# Altium integrated library Cypress PSoC 5.IntLib: 32 symbols (part 6 of 6)
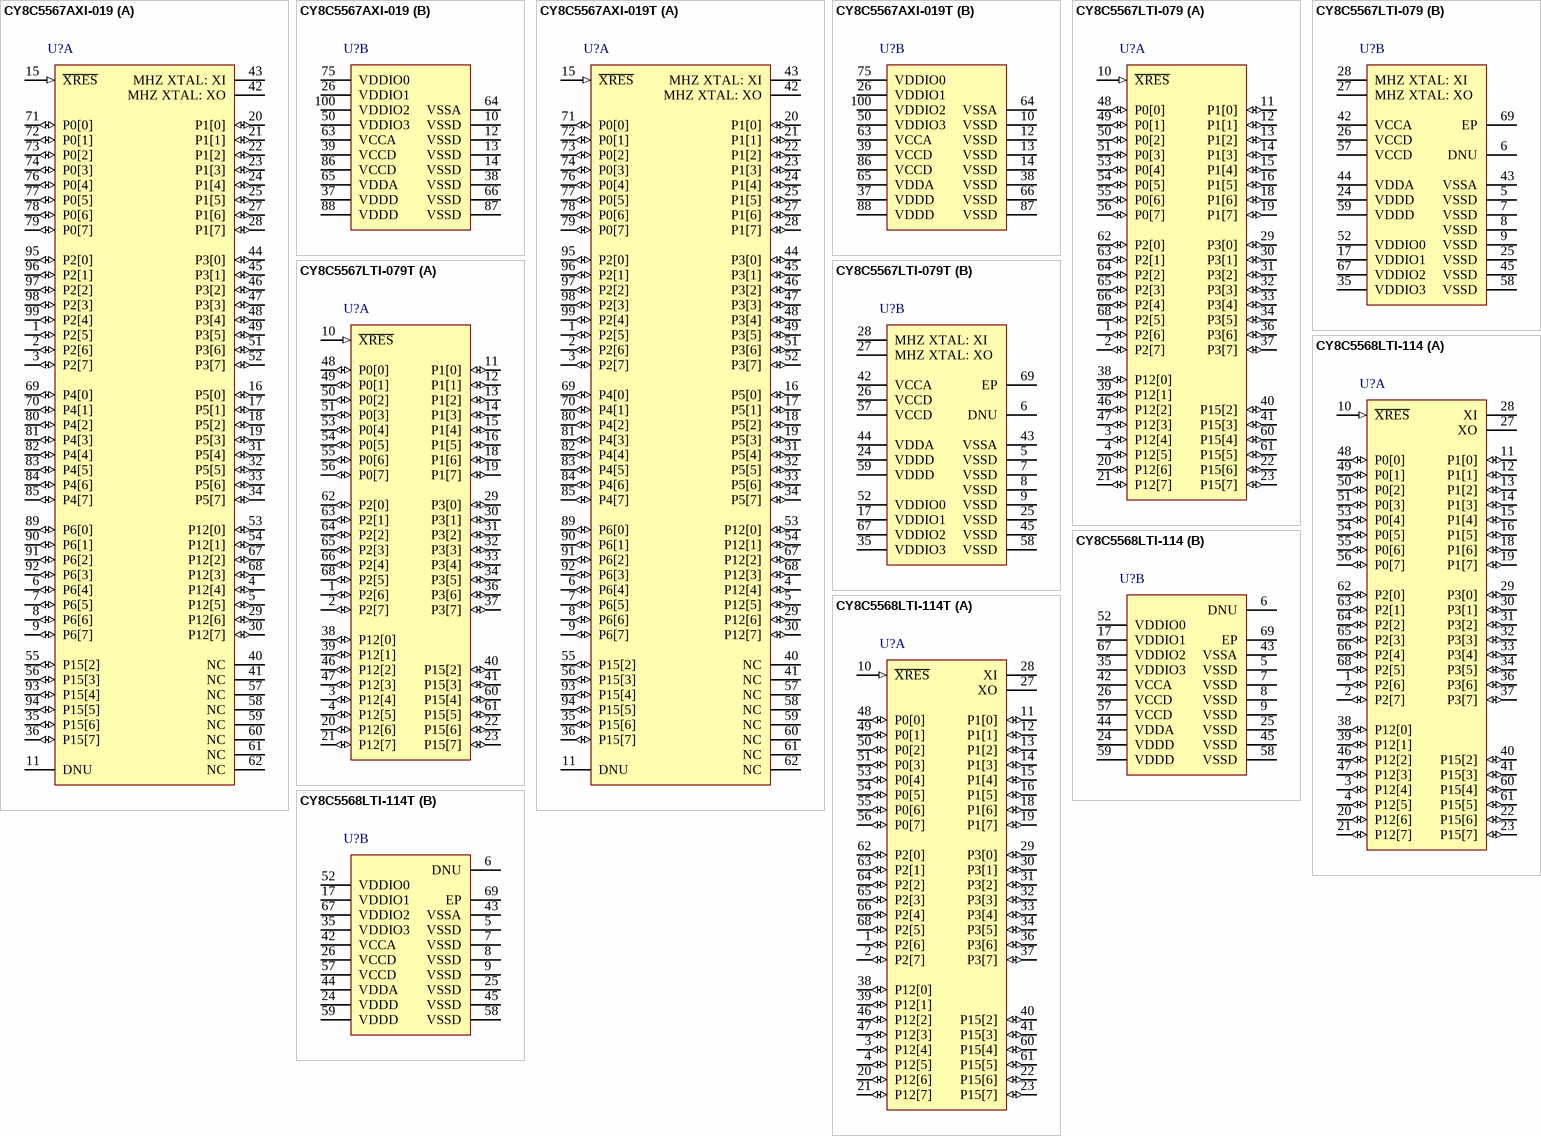
[diagram p9: symbols CY8C5567AXI-019 to CY8C5568LTI-114T]

## CY8C5568LTI-114
designator U?
PSoC Programmable System-on-Chip, 256 KB Flash, 36 GPIOs, 2.7 to 5.5 V, 68-Pin QFN (LT68); Manufacturer: Cypress; PartNumber: CY8C5568LTI-114; CPU Core: ARM Cortex-M3; EEPROM (KB): 2; Flash (KB): 256; LCD Direct Drive: Y; Max. Operating Voltage (V): 5.5; Min. Operating Voltage (V): 2.7; No. of Dedicated Digital Filter Blocks: 1; No. of GPIOs: 36; No. of Programmable Universal Digital Blocks: 24; Rating: I; SRAM (KB): 64; DatasheetVersion: Rev. *D; PackageVersion: Rev. *E; PackageReference: LT68; PackageDescription: 68-Pin QFN, Body 8.00 x 8.00 mm, Pitch 0.40 mm; Supplier 1: Digi-Key; Supplier Part Number 1: 428-3143-ND; Supplier 2: Farnell; Supplier Part Number 2: 2082980; Supplier 3: Newark; Supplier Part Number 3: 88T3069; Supplier 4: Newark; Supplier Part Number 4: 89T5499; Supplier 5: Mouser; Supplier Part Number 5: 727-CY8C5568LTI-114; Max. Operating Temp. (°C): 85; Min. Operating Temp. (°C): -40; Mounting Technology: Surface Mount; Code_JEDEC: MO-220; ComponentLink1Description: Manufacturer URL; ComponentLink1URL: http://www.cypress.com/; ComponentLink2Description: Datasheet; ComponentLink2URL: http://www.cypress.com/?docID=34815; ComponentLink3Description: Package Specification; ComponentLink3URL: http://www.cypress.com/?docID=38892; ComponentLink4Description: Product URL; ComponentLink4URL: http://www.cypress.com/?rID=37581
footprint CYP-LT68_N (QFN, 68-Leads, Body 8x8mm, Pitch 0.4mm, Thermal Pad 5.7x5.7mm, IPC Medium Density)
part A pins: 1 P2[6] (io) "Provides interfaces to the CPU, digital peripherals, analog peripherals, interrupts, LCD segment drive, and CapSense.", 2 P2[7] (io) "Provides interfaces to the CPU, digital peripherals, analog peripherals, interrupts, LCD segment drive, and CapSense.", 3 P12[4] (io) "Provides interfaces to the CPU, digital peripherals and interrupts with a programmable high threshold voltage, analog comparator, high sink current, and high impedance state when the device is unpowered.", 4 P12[5] (io) "Provides interfaces to the CPU, digital peripherals and interrupts with a programmable high threshold voltage, analog comparator, high sink current, and high impedance state when the device is unpowered.", 10 ~{XRES} (in), 11 P1[0] (io) "SWD Input and Output programming and debug port connection.Provides interfaces to the CPU, digital peripherals, analog peripherals, interrupts, LCD segment drive, and CapSense.", 12 P1[1] (io) "SWD Clock programming and debug port connection. When programming and debugging using SWD is done over USBIOs, the SWDCK pin of port P1[1] is not available for use as a general purpose I/O and should be externally pulled (See Datasheet)", 13 P1[2] (io) "Provides interfaces to the CPU, digital peripherals, analog peripherals, interrupts, LCD segment drive, and CapSense.", 14 P1[3] (io) "SWV output.Provides interfaces to the CPU, digital peripherals, analog peripherals, interrupts, LCD segment drive, and CapSense.", 15 P1[4] (io) "Provides interfaces to the CPU, digital peripherals, analog peripherals, interrupts, LCD segment drive, and CapSense.", 16 P1[5] (io) "Provides interfaces to the CPU, digital peripherals, analog peripherals, interrupts, LCD segment drive, and CapSense.", 18 P1[6] (io) "Provides interfaces to the CPU, digital peripherals, analog peripherals, interrupts, LCD segment drive, and CapSense.", 19 P1[7] (io) "Provides interfaces to the CPU, digital peripherals, analog peripherals, interrupts, LCD segment drive, and CapSense.", 20 P12[6] (io) "Special I/O provides interfaces to the CPU, digital peripherals and interrupts with a programmable high threshold voltage, analog comparator, high sink current, and high impedance state when the device is unpowered.", 21 P12[7] (io) "Special I/O provides interfaces to the CPU, digital peripherals and interrupts with a programmable high threshold voltage, analog comparator, high sink current, and high impedance state when the device is unpowered.", 22 P15[6] (io) "Provides D+ connection directly to a USB 2.0 bus. May be used as a digital I/O pin; it is powered from VDDD instead of from a VDDIO. Pins are Do Not Use (DNU) on devices without USB.SWD Input and Output programming and debug (See Datasheet)", 23 P15[7] (io) "Provides D- connection directly to a USB 2.0 bus. May be used as a digital I/O pin; it is powered from VDDD instead of from a VDDIO. Pins are DNU on devices without USB.SWD Clock programming and debug port connection. When (See Datasheet)", 27 XO, 28 XI, 29 P3[0] (io) "Low-resistance output pin for high-current DACs (IDAC).Provides interfaces to the CPU, digital peripherals, analog peripherals, interrupts, LCD segment drive, and CapSense.", 30 P3[1] (io) "Low-resistance output pin for high-current DACs (IDAC).Provides interfaces to the CPU, digital peripherals, analog peripherals, interrupts, LCD segment drive, and CapSense.", 31 P3[2] (io) "Inverting input to uncommitted opamp. External reference input to the analog system. Provides interfaces to the CPU, digital peripherals, analog peripherals, interrupts, LCD segment drive, and CapSense.", 32 P3[3] (io) "Noninverting input to uncommitted opamp.Provides interfaces to the CPU, digital peripherals, analog peripherals, interrupts, LCD segment drive, and CapSense.", 33 P3[4] (io) "Inverting input to uncommitted opamp.Provides interfaces to the CPU, digital peripherals, analog peripherals, interrupts, LCD segment drive, and CapSense.", 34 P3[5] (io) "Noninverting input to uncommitted opamp.Provides interfaces to the CPU, digital peripherals, analog peripherals, interrupts, LCD segment drive, and CapSense.", 36 P3[6] (io) "Provides interfaces to the CPU, digital peripherals, analog peripherals, interrupts, LCD segment drive, and CapSense.High current output of uncommitted opamp.", 37 P3[7] (io) "Provides interfaces to the CPU, digital peripherals, analog peripherals, interrupts, LCD segment drive, and CapSense.High current output of uncommitted opamp.", 38 P12[0] (io) "Provides interfaces to the CPU, digital peripherals and interrupts with a programmable high threshold voltage, analog comparator, high sink current, and high impedance state when the device is unpowered.", 39 P12[1] (io) "Provides interfaces to the CPU, digital peripherals and interrupts with a programmable high threshold voltage, analog comparator, high sink current, and high impedance state when the device is unpowered.", 40 P15[2] (io) "Provides interfaces to the CPU, digital peripherals, analog peripherals, interrupts, LCD segment drive, and CapSense.32.768 kHz crystal oscillator pin.", 41 P15[3] (io) "Provides interfaces to the CPU, digital peripherals, analog peripherals, interrupts, LCD segment drive, and CapSense.32.768 kHz crystal oscillator pin.", 46 P12[2] (io) "Provides interfaces to the CPU, digital peripherals and interrupts with a programmable high threshold voltage, analog comparator, high sink current, and high impedance state when the device is unpowered.", 47 P12[3] (io) "Provides interfaces to the CPU, digital peripherals and interrupts with a programmable high threshold voltage, analog comparator, high sink current, and high impedance state when the device is unpowered.", 48 P0[0] (io) "Provides interfaces to the CPU, digital peripherals, analog peripherals, interrupts, LCD segment drive, and CapSense. High current output of uncommitted opamp.", 49 P0[1] (io) "Provides interfaces to the CPU, digital peripherals, analog peripherals, interrupts, LCD segment drive, and CapSense. High current output of uncommitted opamp.", 50 P0[2] (io) "Provides interfaces to the CPU, digital peripherals, analog peripherals, interrupts, LCD segment drive, and CapSense. Noninverting input to uncommitted opamp. External references for SAR ADCs.", 51 P0[3] (io) "Provides interfaces to the CPU, digital peripherals, analog peripherals, interrupts, LCD segment drive, and CapSense. Inverting input to uncommitted opamp. External reference input to the analog system.", 53 P0[4] (io) "Provides interfaces to the CPU, digital peripherals, analog peripherals, interrupts, LCD segment drive, and CapSense. Noninverting input to uncommitted opamp. External references for SAR ADCs.", 54 P0[5] (io) "Provides interfaces to the CPU, digital peripherals, analog peripherals, interrupts, LCD segment drive, and CapSense. Inverting input to uncommitted opamp.", 55 P0[6] (io) "Provides interfaces to the CPU, digital peripherals, analog peripherals, interrupts, LCD segment drive, and CapSense.Low-resistance output pin for high-current DACs (IDAC).", 56 P0[7] (io) "Provides interfaces to the CPU, digital peripherals, analog peripherals, interrupts, LCD segment drive, and CapSense.Low-resistance output pin for high-current DACs (IDAC).", 60 P15[4] (io) "Provides interfaces to the CPU, digital peripherals, analog peripherals, interrupts, LCD segment drive, and CapSense.", 61 P15[5] (io) "Provides interfaces to the CPU, digital peripherals, analog peripherals, interrupts, LCD segment drive, and CapSense.", 62 P2[0] (io) "Provides interfaces to the CPU, digital peripherals, analog peripherals, interrupts, LCD segment drive, and CapSense.", 63 P2[1] (io) "Provides interfaces to the CPU, digital peripherals, analog peripherals, interrupts, LCD segment drive, and CapSense.", 64 P2[2] (io) "Provides interfaces to the CPU, digital peripherals, analog peripherals, interrupts, LCD segment drive, and CapSense.", 65 P2[3] (io) "Provides interfaces to the CPU, digital peripherals, analog peripherals, interrupts, LCD segment drive, and CapSense.", 66 P2[4] (io) "Provides interfaces to the CPU, digital peripherals, analog peripherals, interrupts, LCD segment drive, and CapSense.", 68 P2[5] (io) "Provides interfaces to the CPU, digital peripherals, analog peripherals, interrupts, LCD segment drive, and CapSense."
part B pins: 5 VSSD (power), 6 DNU, 7 VSSD (power), 8 VSSD (power), 9 VSSD (power), 17 VDDIO1 (power), 24 VDDD (power), 25 VSSD (power), 26 VCCD (power), 35 VDDIO3 (power), 42 VCCA (power), 43 VSSA (power), 44 VDDA (power), 45 VSSD (power), 52 VDDIO0 (power), 57 VCCD (power), 58 VSSD (power), 59 VDDD (power), 67 VDDIO2 (power), 69 EP (power) "solderable exposed pad"

## CY8C5568LTI-114T
designator U?
PSoC Programmable System-on-Chip, 256 KB Flash, 36 GPIOs, 2.7 to 5.5 V, 68-Pin QFN (LT68), Tape and Reel; Manufacturer: Cypress; PartNumber: CY8C5568LTI-114T; CPU Core: ARM Cortex-M3; EEPROM (KB): 2; Flash (KB): 256; LCD Direct Drive: Y; Max. Operating Voltage (V): 5.5; Min. Operating Voltage (V): 2.7; No. of Dedicated Digital Filter Blocks: 1; No. of GPIOs: 36; No. of Programmable Universal Digital Blocks: 24; Rating: I; SRAM (KB): 64; DatasheetVersion: Rev. *D; PackageVersion: Rev. *E; PackageReference: LT68; PackageDescription: 68-Pin QFN, Body 8.00 x 8.00 mm, Pitch 0.40 mm; Supplier 1: Newark; Supplier Part Number 1: 89T5500; Supplier 2: Mouser; Supplier Part Number 2: 727-CY8C5568LTI-114T; Max. Operating Temp. (°C): 85; Min. Operating Temp. (°C): -40; Packing: Tape and Reel; Mounting Technology: Surface Mount; Code_JEDEC: MO-220; ComponentLink1Description: Manufacturer URL; ComponentLink1URL: http://www.cypress.com/; ComponentLink2Description: Datasheet; ComponentLink2URL: http://www.cypress.com/?docID=34815; ComponentLink3Description: Package Specification; ComponentLink3URL: http://www.cypress.com/?docID=38892; ComponentLink4Description: Product URL; ComponentLink4URL: http://www.cypress.com/?rID=37581
footprint CYP-LT68_N (QFN, 68-Leads, Body 8x8mm, Pitch 0.4mm, Thermal Pad 5.7x5.7mm, IPC Medium Density)
part A pins: 1 P2[6] (io) "Provides interfaces to the CPU, digital peripherals, analog peripherals, interrupts, LCD segment drive, and CapSense.", 2 P2[7] (io) "Provides interfaces to the CPU, digital peripherals, analog peripherals, interrupts, LCD segment drive, and CapSense.", 3 P12[4] (io) "Provides interfaces to the CPU, digital peripherals and interrupts with a programmable high threshold voltage, analog comparator, high sink current, and high impedance state when the device is unpowered.", 4 P12[5] (io) "Provides interfaces to the CPU, digital peripherals and interrupts with a programmable high threshold voltage, analog comparator, high sink current, and high impedance state when the device is unpowered.", 10 ~{XRES} (in), 11 P1[0] (io) "SWD Input and Output programming and debug port connection.Provides interfaces to the CPU, digital peripherals, analog peripherals, interrupts, LCD segment drive, and CapSense.", 12 P1[1] (io) "SWD Clock programming and debug port connection. When programming and debugging using SWD is done over USBIOs, the SWDCK pin of port P1[1] is not available for use as a general purpose I/O and should be externally pulled (See Datasheet)", 13 P1[2] (io) "Provides interfaces to the CPU, digital peripherals, analog peripherals, interrupts, LCD segment drive, and CapSense.", 14 P1[3] (io) "SWV output.Provides interfaces to the CPU, digital peripherals, analog peripherals, interrupts, LCD segment drive, and CapSense.", 15 P1[4] (io) "Provides interfaces to the CPU, digital peripherals, analog peripherals, interrupts, LCD segment drive, and CapSense.", 16 P1[5] (io) "Provides interfaces to the CPU, digital peripherals, analog peripherals, interrupts, LCD segment drive, and CapSense.", 18 P1[6] (io) "Provides interfaces to the CPU, digital peripherals, analog peripherals, interrupts, LCD segment drive, and CapSense.", 19 P1[7] (io) "Provides interfaces to the CPU, digital peripherals, analog peripherals, interrupts, LCD segment drive, and CapSense.", 20 P12[6] (io) "Special I/O provides interfaces to the CPU, digital peripherals and interrupts with a programmable high threshold voltage, analog comparator, high sink current, and high impedance state when the device is unpowered.", 21 P12[7] (io) "Special I/O provides interfaces to the CPU, digital peripherals and interrupts with a programmable high threshold voltage, analog comparator, high sink current, and high impedance state when the device is unpowered.", 22 P15[6] (io) "Provides D+ connection directly to a USB 2.0 bus. May be used as a digital I/O pin; it is powered from VDDD instead of from a VDDIO. Pins are Do Not Use (DNU) on devices without USB.SWD Input and Output programming and debug (See Datasheet)", 23 P15[7] (io) "Provides D- connection directly to a USB 2.0 bus. May be used as a digital I/O pin; it is powered from VDDD instead of from a VDDIO. Pins are DNU on devices without USB.SWD Clock programming and debug port connection. When (See Datasheet)", 27 XO, 28 XI, 29 P3[0] (io) "Low-resistance output pin for high-current DACs (IDAC).Provides interfaces to the CPU, digital peripherals, analog peripherals, interrupts, LCD segment drive, and CapSense.", 30 P3[1] (io) "Low-resistance output pin for high-current DACs (IDAC).Provides interfaces to the CPU, digital peripherals, analog peripherals, interrupts, LCD segment drive, and CapSense.", 31 P3[2] (io) "Inverting input to uncommitted opamp. External reference input to the analog system. Provides interfaces to the CPU, digital peripherals, analog peripherals, interrupts, LCD segment drive, and CapSense.", 32 P3[3] (io) "Noninverting input to uncommitted opamp.Provides interfaces to the CPU, digital peripherals, analog peripherals, interrupts, LCD segment drive, and CapSense.", 33 P3[4] (io) "Inverting input to uncommitted opamp.Provides interfaces to the CPU, digital peripherals, analog peripherals, interrupts, LCD segment drive, and CapSense.", 34 P3[5] (io) "Noninverting input to uncommitted opamp.Provides interfaces to the CPU, digital peripherals, analog peripherals, interrupts, LCD segment drive, and CapSense.", 36 P3[6] (io) "Provides interfaces to the CPU, digital peripherals, analog peripherals, interrupts, LCD segment drive, and CapSense.High current output of uncommitted opamp.", 37 P3[7] (io) "Provides interfaces to the CPU, digital peripherals, analog peripherals, interrupts, LCD segment drive, and CapSense.High current output of uncommitted opamp.", 38 P12[0] (io) "Provides interfaces to the CPU, digital peripherals and interrupts with a programmable high threshold voltage, analog comparator, high sink current, and high impedance state when the device is unpowered.", 39 P12[1] (io) "Provides interfaces to the CPU, digital peripherals and interrupts with a programmable high threshold voltage, analog comparator, high sink current, and high impedance state when the device is unpowered.", 40 P15[2] (io) "Provides interfaces to the CPU, digital peripherals, analog peripherals, interrupts, LCD segment drive, and CapSense.32.768 kHz crystal oscillator pin.", 41 P15[3] (io) "Provides interfaces to the CPU, digital peripherals, analog peripherals, interrupts, LCD segment drive, and CapSense.32.768 kHz crystal oscillator pin.", 46 P12[2] (io) "Provides interfaces to the CPU, digital peripherals and interrupts with a programmable high threshold voltage, analog comparator, high sink current, and high impedance state when the device is unpowered.", 47 P12[3] (io) "Provides interfaces to the CPU, digital peripherals and interrupts with a programmable high threshold voltage, analog comparator, high sink current, and high impedance state when the device is unpowered.", 48 P0[0] (io) "Provides interfaces to the CPU, digital peripherals, analog peripherals, interrupts, LCD segment drive, and CapSense. High current output of uncommitted opamp.", 49 P0[1] (io) "Provides interfaces to the CPU, digital peripherals, analog peripherals, interrupts, LCD segment drive, and CapSense. High current output of uncommitted opamp.", 50 P0[2] (io) "Provides interfaces to the CPU, digital peripherals, analog peripherals, interrupts, LCD segment drive, and CapSense. Noninverting input to uncommitted opamp. External references for SAR ADCs.", 51 P0[3] (io) "Provides interfaces to the CPU, digital peripherals, analog peripherals, interrupts, LCD segment drive, and CapSense. Inverting input to uncommitted opamp. External reference input to the analog system.", 53 P0[4] (io) "Provides interfaces to the CPU, digital peripherals, analog peripherals, interrupts, LCD segment drive, and CapSense. Noninverting input to uncommitted opamp. External references for SAR ADCs.", 54 P0[5] (io) "Provides interfaces to the CPU, digital peripherals, analog peripherals, interrupts, LCD segment drive, and CapSense. Inverting input to uncommitted opamp.", 55 P0[6] (io) "Provides interfaces to the CPU, digital peripherals, analog peripherals, interrupts, LCD segment drive, and CapSense.Low-resistance output pin for high-current DACs (IDAC).", 56 P0[7] (io) "Provides interfaces to the CPU, digital peripherals, analog peripherals, interrupts, LCD segment drive, and CapSense.Low-resistance output pin for high-current DACs (IDAC).", 60 P15[4] (io) "Provides interfaces to the CPU, digital peripherals, analog peripherals, interrupts, LCD segment drive, and CapSense.", 61 P15[5] (io) "Provides interfaces to the CPU, digital peripherals, analog peripherals, interrupts, LCD segment drive, and CapSense.", 62 P2[0] (io) "Provides interfaces to the CPU, digital peripherals, analog peripherals, interrupts, LCD segment drive, and CapSense.", 63 P2[1] (io) "Provides interfaces to the CPU, digital peripherals, analog peripherals, interrupts, LCD segment drive, and CapSense.", 64 P2[2] (io) "Provides interfaces to the CPU, digital peripherals, analog peripherals, interrupts, LCD segment drive, and CapSense.", 65 P2[3] (io) "Provides interfaces to the CPU, digital peripherals, analog peripherals, interrupts, LCD segment drive, and CapSense.", 66 P2[4] (io) "Provides interfaces to the CPU, digital peripherals, analog peripherals, interrupts, LCD segment drive, and CapSense.", 68 P2[5] (io) "Provides interfaces to the CPU, digital peripherals, analog peripherals, interrupts, LCD segment drive, and CapSense."
part B pins: 5 VSSD (power), 6 DNU, 7 VSSD (power), 8 VSSD (power), 9 VSSD (power), 17 VDDIO1 (power), 24 VDDD (power), 25 VSSD (power), 26 VCCD (power), 35 VDDIO3 (power), 42 VCCA (power), 43 VSSA (power), 44 VDDA (power), 45 VSSD (power), 52 VDDIO0 (power), 57 VCCD (power), 58 VSSD (power), 59 VDDD (power), 67 VDDIO2 (power), 69 EP (power) "solderable exposed pad"